# Altium schematic symbol library B66230_32_16_9.SchLib: 1 symbol
Pins are listed as number, name and electrical type; pins without a type are passive.

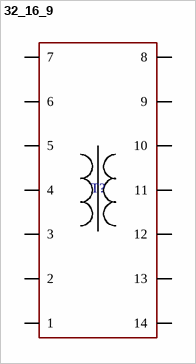
[diagram p0: symbol 32_16_9]

## 32_16_9
designator T?  (value not drawn)
footprint B66230_horizontal
pins: 1, 2, 3, 4, 5, 6, 7, 8, 9, 10, 11, 12, 13, 14